# EAGLE library part ESP32_THING (library ZHAW_BA)
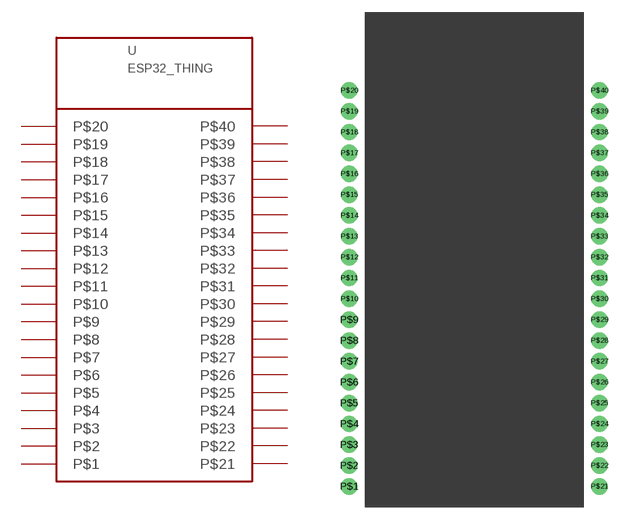
[diagram p18: symbol with the pads of ESP32_THING; footprint ESP32_THING]

Designator prefix U

## ESP32_THING  [ESP32_THING]
P$1  P$1
P$2  P$2
P$3  P$3
P$4  P$4
P$5  P$5
P$6  P$6
P$7  P$7
P$8  P$8
P$9  P$9
P$10  P$10
P$11  P$11
P$12  P$12
P$13  P$13
P$14  P$14
P$15  P$15
P$16  P$16
P$17  P$17
P$18  P$18
P$19  P$19
P$20  P$20
P$21  P$21
P$22  P$22
P$23  P$23
P$24  P$24
P$25  P$25
P$26  P$26
P$27  P$27
P$28  P$28
P$29  P$29
P$30  P$30
P$31  P$31
P$32  P$32
P$33  P$33
P$34  P$34
P$35  P$35
P$36  P$36
P$37  P$37
P$38  P$38
P$39  P$39
P$40  P$40

## Footprint ESP32_THING (pad centres in mm)
drill 0.9 pad 2: P$1 -2.54,1.905; P$2 -2.54,4.445; P$3 -2.54,6.985; P$4 -2.54,9.525; P$5 -2.54,12.065; P$6 -2.54,14.605; P$7 -2.54,17.145; P$8 -2.54,19.685; P$9 -2.54,22.225; P$10 -2.54,24.765; P$11 -2.54,27.305; P$12 -2.54,29.845; P$13 -2.54,32.385; P$14 -2.54,34.925; P$15 -2.54,37.465; P$16 -2.54,40.005; P$17 -2.54,42.545; P$18 -2.54,45.085; P$19 -2.54,47.625; P$20 -2.54,50.165; P$21 27.94,1.905; P$22 27.94,4.445; P$23 27.94,6.985; P$24 27.94,9.525; P$25 27.94,12.065; P$26 27.94,14.605; P$27 27.94,17.145; P$28 27.94,19.685; P$29 27.94,22.225; P$30 27.94,24.765; P$31 27.94,27.305; P$32 27.94,29.845; P$33 27.94,32.385; P$34 27.94,34.925; P$35 27.94,37.465; P$36 27.94,40.005; P$37 27.94,42.545; P$38 27.94,45.085; P$39 27.94,47.625; P$40 27.94,50.165